# Altium schematic symbol library njr-regulator.SchLib: 1 symbol
Pins are listed as number, name and electrical type; pins without a type are passive.

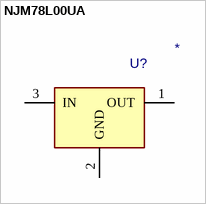
[diagram p0: symbol NJM78L00UA]

## NJM78L00UA
designator U?
Positive Voltage Regulator 100mA
footprint SOT-89 (SOT89, 3-Leads, Body 4.5x2.4mm (max), Pitch 1.50mm, Lead Span 4.1mm, IPC High Density)
pins: 1 OUT (power), 2 GND (power), 3 IN (power)